# Altium footprint library dsau-motherboard.PcbLib: 22 footprints (part 2 of 2)
Each footprint in its own frame and in the unit in brackets; x right, y up, seen from the top. Pads: shape width x height; smd on the part's side, far side on the other; paste and mask are expansions set on the pad; w line width, h text height; cw(c..) or ccw(c..) is an arc to the next point about the centre after c.
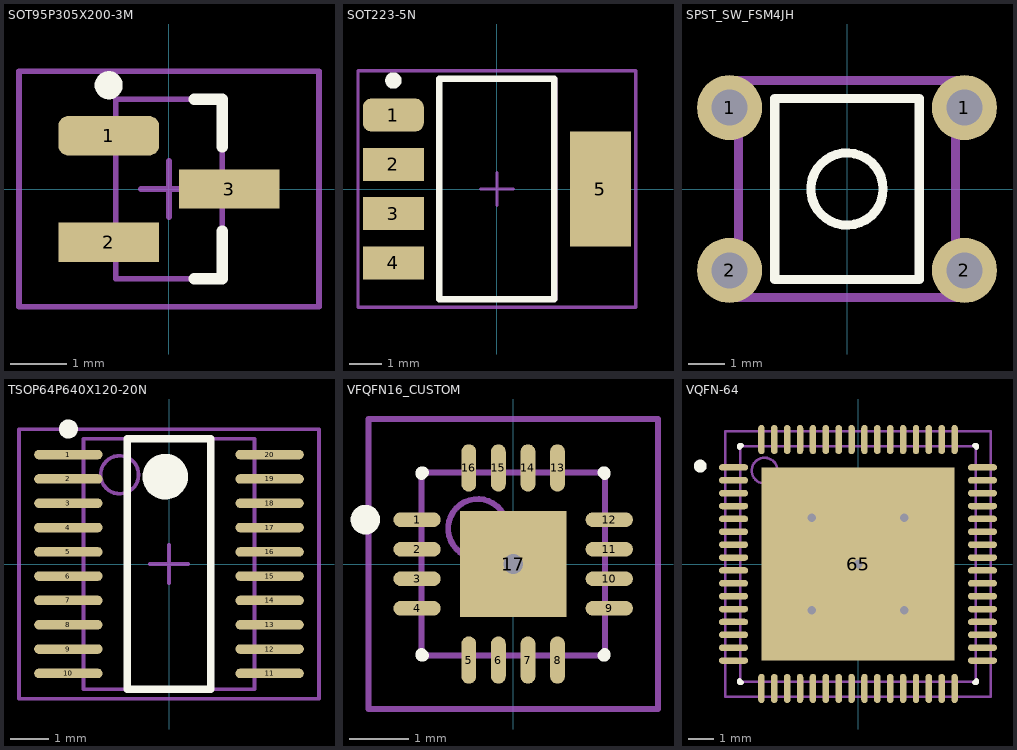
[diagram p1: the footprints below, top view; thin cyan lines are the x and y axes]

## SOT95P305X200-3M [mm] "SOT23, 3-Leads, Body 3.2x3.2mm (max), Pitch 0.95mm, IPC Low Density"
height 2
pads (3):
  rrect50% 1.8x0.7 smd: 1(-1.075,0.95)
  rect 1.8x0.7 smd: 2(-1.075,-0.95) 3(1.075,0)
Top Overlay:
  circle w0.25: c-1.075,1.85 r0.125
  lines w0.2: 0.45,-1.6 0.95,-1.6 0.95,-0.75 ; 0.45,1.6 0.95,1.6 0.95,0.75
Mechanical 13:
  lines w0.1: -0.95,-1.6 0.95,-1.6 0.95,1.6 -0.95,1.6 -0.95,-1.6
Mechanical 15:
  lines w0.1: -0.5,0 0.5,0 ; 0,-0.5 0,0.5 ; -2.675,-2.1 2.675,-2.1 2.675,2.1 -2.675,2.1 -2.675,-2.1
3D body: height 2, standoff 0.13, extent -0.95,-1.6 0.95,1.6

## SOT223-5N [mm]
height 1.6
pads (5):
  rrect50% 1.85x1 smd: 1(-3.15,2.25)
  rect 1.85x1 smd: 2(-3.15,0.75) 3(-3.15,-0.75) 4(-3.15,-2.25)
  rect 1.85x3.5 smd: 5(3.15,0)
Top Overlay:
  circle w0.25: c-3.15,3.3 r0.125
  lines w0.2: -1.75,-3.35 -1.75,3.35 1.75,3.35 1.75,-3.35 -1.75,-3.35
Mechanical 13:
  lines w0.1: -1.8,-3.35 -1.8,3.35 1.8,3.35 1.8,-3.35 -1.8,-3.35
Mechanical 15:
  lines w0.1: -0.5,0 0.5,0 ; 0,-0.5 0,0.5 ; -4.225,-3.6 -4.225,3.6 4.225,3.6 4.225,-3.6 -4.225,-3.6
3D body: height 1.6, standoff 0.02, extent -1.8,-3.35 1.8,3.35

## SPST_SW_FSM4JH [mm]
height 6
pads (4):
  round 1.8 hole 1: 1(-3.25,2.25) 1(3.25,2.25) 2(-3.25,-2.25) 2(3.25,-2.25)
Top Overlay:
  circle w0.254: c0,0 r1
  lines w0.254: -2,-2.5 2,-2.5 2,2.5 -2,2.5 -2,-2.5
Mechanical 1:
  lines w0.254: -3,-3 3,-3 3,3 -3,3 -3,-3
3D body: height 4, standoff 0, extent -2.5,-2.5 2.48,2.49
3D body: height 3.3, standoff 0, extent -3,-3 3,3

## TSOP64P640X120-20N [mm] "TSOP, 20-Leads, Body 6.6x4.5mm (max), Pitch 0.64mm, IPC Medium Density"
height 1.2
pads (20):
  oval 1.8x0.25 smd: 1(-2.65,2.88) 2(-2.65,2.24) 3(-2.65,1.6) 4(-2.65,0.96) 5(-2.65,0.32) 6(-2.65,-0.32) 7(-2.65,-0.96) 8(-2.65,-1.6) 9(-2.65,-2.24) 10(-2.65,-2.88) 11(2.65,-2.88) 12(2.65,-2.24) 13(2.65,-1.6) 14(2.65,-0.96) 15(2.65,-0.32) 16(2.65,0.32) 17(2.65,0.96) 18(2.65,1.6) 19(2.65,2.24) 20(2.65,2.88)
Top Overlay:
  circle w0.6: c-0.1,2.3 r0.3
  circle w0.25: c-2.65,3.555 r0.125
  lines w0.2: -1.1,-3.3 1.1,-3.3 1.1,3.3 -1.1,3.3 -1.1,-3.3
Mechanical 13:
  circle w0.1: c-1.3,2.35 r0.5
  lines w0.1: -2.25,-3.3 2.25,-3.3 2.25,3.3 -2.25,3.3 -2.25,-3.3
Mechanical 15:
  lines w0.1: -0.5,0 0.5,0 ; 0,-0.5 0,0.5 ; -3.95,-3.55 3.95,-3.55 3.95,3.55 -3.95,3.55 -3.95,-3.55
3D body: height 1.2, standoff 0.05, extent -2.25,-3.3 2.25,3.3

## VFQFN16_CUSTOM [mm] "QFN, 16-Leads, Body 3.1x3.1mm (max), Pitch 0.50mm, IPC Low Density"
height 1
pads (17):
  oval 0.8x0.25 smd mask+0.076: 1(-1.626,0.75) 2(-1.626,0.25) 3(-1.626,-0.25) 4(-1.626,-0.75) 9(1.626,-0.75) 10(1.626,-0.25) 11(1.626,0.25) 12(1.626,0.75)
  oval 0.25x0.8 smd mask+0.076: 5(-0.75,-1.626) 6(-0.25,-1.626) 7(0.25,-1.626) 8(0.75,-1.626) 13(0.75,1.626) 14(0.25,1.626) 15(-0.25,1.626) 16(-0.75,1.626)
  rect 1.8x1.8 smd mask+0.076: 17(0,0)
via 0,0 diameter 0.66 hole 0.33
Top Overlay:
  circle w0.25: c-2.5,0.75 r0.125
  lines w0.2: -1.55,-1.525 -1.55,-1.55 -1.525,-1.55 ; -1.55,1.525 -1.55,1.55 -1.525,1.55 ; 1.525,-1.55 1.55,-1.55 1.55,-1.525 ; 1.525,1.55 1.55,1.55 1.55,1.525
Mechanical 13:
  circle w0.1: c-0.6,0.6 r0.5
  lines w0.1: -1.55,-1.55 -1.55,1.55 1.55,1.55 1.55,-1.55 -1.55,-1.55
Mechanical 15:
  lines w0.1: -0.5,0 0.5,0 ; 0,-0.5 0,0.5 ; -2.45,-2.45 -2.45,2.45 2.45,2.45 2.45,-2.45 -2.45,-2.45
3D body: height 1, standoff 0.05, extent -1.55,-1.55 1.55,1.55

## VQFN-64 [mm] "QFN, 64-Leads, Body 9.1x9.1mm (max), Pitch 0.50mm, IPC Medium Density"
height 1
pads (65):
  oval 1.13x0.25 smd: 1(-4.83,3.75) 2(-4.83,3.25) 3(-4.83,2.75) 4(-4.83,2.25) 5(-4.83,1.75) 6(-4.83,1.25) 7(-4.83,0.75) 8(-4.83,0.25) 9(-4.83,-0.25) 10(-4.83,-0.75) 11(-4.83,-1.25) 12(-4.83,-1.75) 13(-4.83,-2.25) 14(-4.83,-2.75) 15(-4.83,-3.25) 16(-4.83,-3.75) 33(4.83,-3.75) 34(4.83,-3.25) 35(4.83,-2.75) 36(4.83,-2.25) 37(4.83,-1.75) 38(4.83,-1.25) 39(4.83,-0.75) 40(4.83,-0.25) 41(4.83,0.25) 42(4.83,0.75) 43(4.83,1.25) 44(4.83,1.75) 45(4.83,2.25) 46(4.83,2.75) 47(4.83,3.25) 48(4.83,3.75)
  oval 0.25x1.13 smd: 17(-3.75,-4.83) 18(-3.25,-4.83) 19(-2.75,-4.83) 20(-2.25,-4.83) 21(-1.75,-4.83) 22(-1.25,-4.83) 23(-0.75,-4.83) 24(-0.25,-4.83) 25(0.25,-4.83) 26(0.75,-4.83) 27(1.25,-4.83) 28(1.75,-4.83) 29(2.25,-4.83) 30(2.75,-4.83) 31(3.25,-4.83) 32(3.75,-4.83) 49(3.75,4.83) 50(3.25,4.83) 51(2.75,4.83) 52(2.25,4.83) 53(1.75,4.83) 54(1.25,4.83) 55(0.75,4.83) 56(0.25,4.83) 57(-0.25,4.83) 58(-0.75,4.83) 59(-1.25,4.83) 60(-1.75,4.83) 61(-2.25,4.83) 62(-2.75,4.83) 63(-3.25,4.83) 64(-3.75,4.83)
  rect 7.5x7.5 smd: 65(0,0)
via -1.8,1.8 diameter 0.66 hole 0.33
via 1.8,1.8 diameter 0.66 hole 0.33
via 0,0 diameter 0.66 hole 0.33
via -1.8,-1.8 diameter 0.66 hole 0.33
via 1.8,-1.8 diameter 0.66 hole 0.33
Top Overlay:
  circle w0.25: c-6.125,3.8 r0.125
  lines w0.2: -4.6,-4.525 -4.6,-4.6 -4.525,-4.6 ; -4.6,4.525 -4.6,4.6 -4.525,4.6 ; 4.525,-4.6 4.6,-4.6 4.6,-4.525 ; 4.525,4.6 4.6,4.6 4.6,4.525
Mechanical 13:
  circle w0.1: c-3.625,3.625 r0.5
  lines w0.1: -4.575,-4.575 -4.575,4.575 4.575,4.575 4.575,-4.575 -4.575,-4.575
Mechanical 15:
  lines w0.1: -0.5,0 0.5,0 ; 0,-0.5 0,0.5 ; -5.15,-5.15 -5.15,5.15 5.15,5.15 5.15,-5.15 -5.15,-5.15
3D body: height 1, standoff 0.08, extent -4.575,-4.575 4.575,4.575